# Altium schematic symbol library USB_5PIN.Schlib: 1 symbol
Pins are listed as number, name and electrical type; pins without a type are passive.

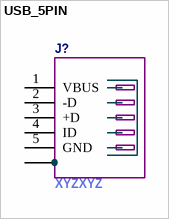
[diagram p0: symbol USB_5PIN]

## USB_5PIN
designator J?  Manufacturer Part Number: XYZXYZ  (hidden comment: USB_5PIN)
pins: 1 VBUS, 2 -D, 3 +D, 4 ID, 5 GND, 6 SH